# Altium schematic symbol library senssorHALLMicronas_MS.SchLib: 1 symbol
Pins are listed as number, name and electrical type; pins without a type are passive.

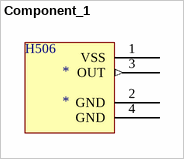
[diagram p0: symbol Component_1]

## Component_1
designator *
pins: 1 VSS (power), 2 GND (power), 3 OUT (out), 4 GND (power)
text: H506